# EAGLE library part A2530 (library neels)
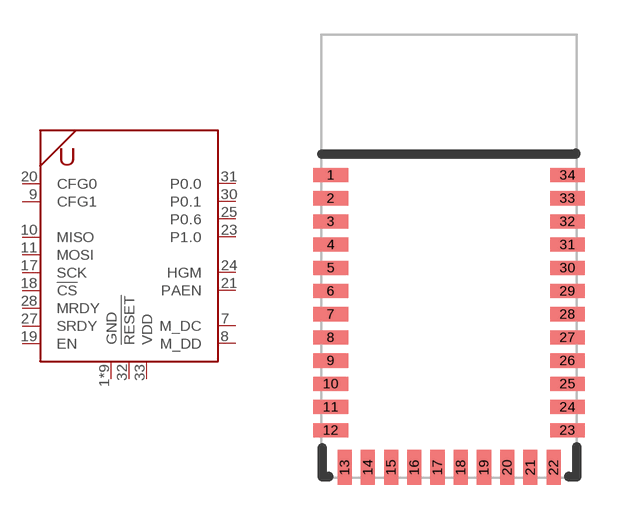
[diagram p13: symbol with the pads of A2530E24A; footprint A2530E24A]

Designator prefix -

## A2530  [A2530E24A]
1  GND
3  GND
7  M_DC
8  M_DD
9  CFG1
10  MISO
11  MOSI
12  GND
13  GND
14  GND
15  GND
16  GND
17  SCK
18  !CS
19  EN
20  CFG0
21  PAEN
22  GND
23  P1.0
24  HGM
25  P0.6
27  SRDY
28  MRDY
30  P0.1
31  P0.0
32  !RESET
33  VDD
34  GND

## Footprint A2530E24A (pad centres in mm)
smd 1.5 x 0.61: 1 -5.1,3.75; 2 -5.1,2.75; 3 -5.1,1.75; 4 -5.1,0.75; 5 -5.1,-0.25; 6 -5.1,-1.25; 7 -5.1,-2.25; 8 -5.1,-3.25; 9 -5.1,-4.25; 10 -5.1,-5.25; 11 -5.1,-6.25; 12 -5.1,-7.25; 23 5.1,-7.25; 24 5.1,-6.25; 25 5.1,-5.25; 26 5.1,-4.25; 27 5.1,-3.25; 28 5.1,-2.25; 29 5.1,-1.25; 30 5.1,-0.25; 31 5.1,0.75; 32 5.1,1.75; 33 5.1,2.75; 34 5.1,3.75
smd 0.61 x 1.5: 13 -4.5,-8.85; 14 -3.5,-8.85; 15 -2.5,-8.85; 16 -1.5,-8.85; 17 -0.5,-8.85; 18 0.5,-8.85; 19 1.5,-8.85; 20 2.5,-8.85; 21 3.5,-8.85; 22 4.5,-8.85